# EAGLE library part VR04,5-2 (library trafo)
TRANSFORMER 1 primary winding, 2 secondary windings, mounting holes BLOCK
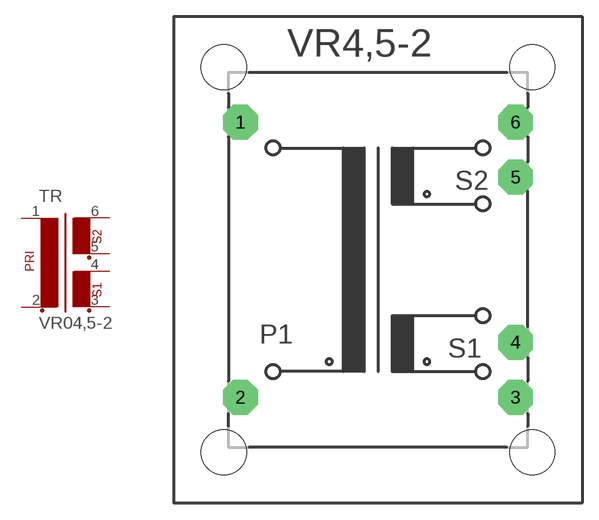
[diagram p22: symbol with the pads of VR04,5-2; footprint VR04,5-2]

Designator prefix TR

## VR04,5-2  [VR04,5-2]
1  1  pas
2  2  pas
3  3  pas
4  4  pas
5  5  pas
6  6  pas

## Footprint VR04,5-2 (pad centres in mm)
TRANSFORMER 1 primary winding, 2 secondary windings, mounting holes
drill 1.397 pad 3.175 octagon: 1 -12.497,12.497; 2 -12.497,-12.497; 3 12.497,-12.497; 4 12.497,-7.493; 5 12.497,7.493; 6 12.497,12.497
hole 4.115 at -14.021,-17.501
hole 4.115 at -14.021,17.501
hole 4.115 at 14.021,17.501
hole 4.115 at 14.021,-17.501